# EAGLE library part 749023010 (library Wurth Electronics Midcom Inc V1-0)
Package Style: 10/100/Gigabit, Single/Dual Port, STR, POE Mounting: SMD Pins: 24 pins Best pinouts for production vary per application. Please contact Wurth Electronics Midcom, Inc. for assistance with your custom design. Datasheet: 749023010 <http://katalog.we-online.de/kataloge/eisos/media/pdf/749023010.pdf> Website: Wurth Electronics Midcom <http://www.we-online.com/midcom> Contact us Wurth Electronics Midcom, Inc. 121 Airport Dr. Watertown, SD 57201 Phone: (605) 886-4385 Fax: (605) 886-4486 E-Mail: midcom@we-online.com
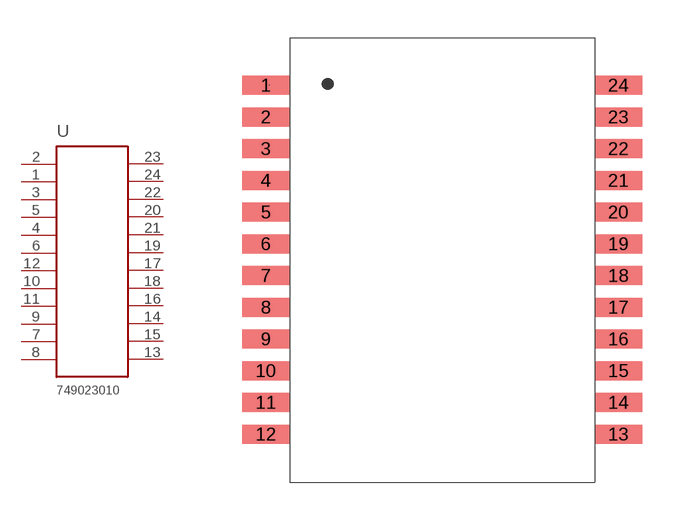
[diagram p199: symbol with the pads of 749023010; footprint 749023010]

Designator prefix -

## 749023010  [749023010]
1  2  pas
2  1  pas
3  3  pas
4  5  pas
5  4  pas
6  6  pas
7  8  pas
8  7  pas
9  9  pas
10  11  pas
11  10  pas
12  12  pas
13  24  pas
14  22  pas
15  23  pas
16  21  pas
17  19  pas
18  20  pas
19  18  pas
20  16  pas
21  17  pas
22  15  pas
23  13  pas
24  14  pas

## Footprint 749023010 (pad centres in mm)
Package Style: 10/100/Gigabit, Single/Dual Port, STR, POE Mounting: SMD Pins: 24
smd 1.905 x 0.76: 1 -7.05,6.985; 2 -7.05,5.715; 3 -7.05,4.445; 4 -7.05,3.175; 5 -7.05,1.905; 6 -7.05,0.635; 7 -7.05,-0.635; 8 -7.05,-1.905; 9 -7.05,-3.175; 10 -7.05,-4.445; 11 -7.05,-5.715; 12 -7.05,-6.985; 13 7.05,-6.985; 14 7.05,-5.715; 15 7.05,-4.445; 16 7.05,-3.175; 17 7.05,-1.905; 18 7.05,-0.635; 19 7.05,0.635; 20 7.05,1.905; 21 7.05,3.175; 22 7.05,4.445; 23 7.05,5.715; 24 7.05,6.985